# Altium footprint library Max_lib.PcbLib: 23 footprints (part 1 of 2)
Each footprint in its own frame and in the unit in brackets; x right, y up, seen from the top. Pads: shape width x height; smd on the part's side, far side on the other; paste and mask are expansions set on the pad; w line width, h text height; cw(c..) or ccw(c..) is an arc to the next point about the centre after c.
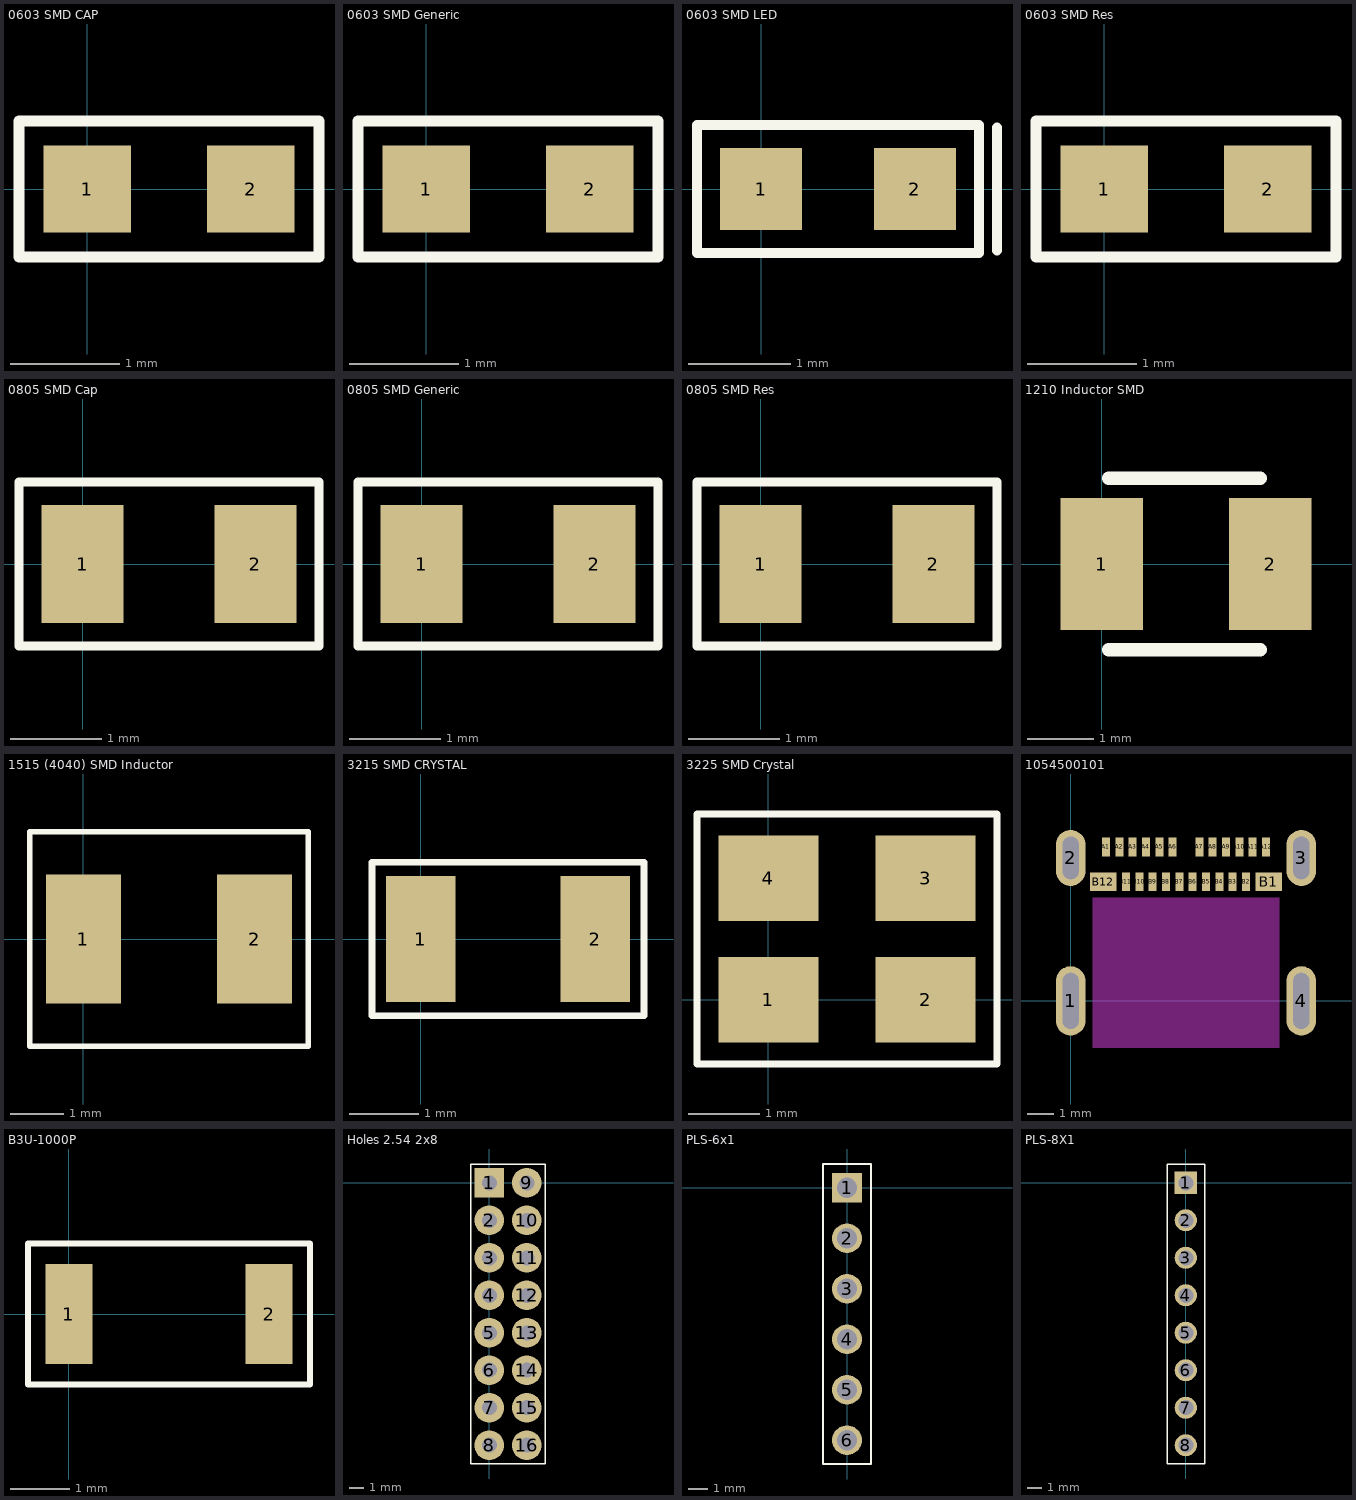
[diagram p0: the footprints below, top view; thin cyan lines are the x and y axes]

## 0603 SMD CAP [mm]
pads (2):
  rect 0.8x0.8 smd mask+0: 1(0,0) 2(1.5,0)
Top Overlay:
  lines w0.1: -0.625,-0.625 -0.625,0.625 2.125,0.625 2.125,-0.625 -0.625,-0.625
3D body "CAP0603.stp": height 0.3, standoff 0, extent -0.05,-0.4 1.55,0.4

## 0603 SMD Generic [mm]
pads (2):
  rect 0.8x0.8 smd: 1(0,0) 2(1.5,0)
Top Overlay:
  lines w0.1: -0.625,-0.625 -0.625,0.625 2.125,0.625 2.125,-0.625 -0.625,-0.625

## 0603 SMD LED [mm]
pads (2):
  rect 0.8x0.8 smd: 1(0,0) 2(1.5,0)
Top Overlay:
  lines w0.1: 2.3,-0.6 2.3,0.6 ; -0.625,-0.625 -0.625,0.625 2.125,0.625 2.125,-0.625 -0.625,-0.625
3D body "0603 Green.step": height 0.55, standoff 0, extent -0.05,-0.4 1.55,0.4

## 0603 SMD Res [mm]
pads (2):
  rect 0.8x0.8 smd: 1(0,0) 2(1.5,0)
Top Overlay:
  lines w0.1: -0.625,-0.625 2.125,-0.625 2.125,0.625 -0.625,0.625 -0.625,-0.625
3D body "RES0603.stp": height 0.45, standoff 0, extent -0.05,-0.4 1.55,0.4

## 0805 SMD Cap [mm]
pads (2):
  rect 0.9x1.3 smd: 1(0,0) 2(1.9,0)
Top Overlay:
  lines w0.1: -0.7,-0.9 2.6,-0.9 2.6,0.9 -0.7,0.9 -0.7,-0.9
3D body "Ceramic_Capacitor_0805_h32mil.step": height 0.81, standoff 0.01, extent -0.05,-0.625 1.95,0.625

## 0805 SMD Generic [mm]
pads (2):
  rect 0.9x1.3 smd: 1(0,0) 2(1.9,0)
Top Overlay:
  lines w0.1: -0.7,-0.9 2.6,-0.9 2.6,0.9 -0.7,0.9 -0.7,-0.9

## 0805 SMD Res [mm]
pads (2):
  rect 0.9x1.3 smd: 1(0,0) 2(1.9,0)
Top Overlay:
  lines w0.1: -0.7,-0.9 2.6,-0.9 2.6,0.9 -0.7,0.9 -0.7,-0.9
3D body "RES0805.stp": height 0.5, standoff 0, extent -0.05,-0.63 1.95,0.62

## 1210 Inductor SMD [mm]
pads (2):
  rect 1.25x2 smd: 1(0,0) 2(2.55,0)
Top Overlay:
  lines w0.2: 0.1,-1.3 2.4,-1.3 ; 0.1,1.3 2.4,1.3
3D body "LQH32PN3R3NNCL.STEP": height 1.7, standoff 0, extent -0.35,-1.25 2.85,1.25

## 1515 (4040) SMD Inductor [mm]
pads (2):
  rect 1.4x2.4 smd: 1(0,0) 2(3.2,0)
Top Overlay:
  lines w0.1: -1,-2 4.2,-2 4.2,2 -1,2 -1,-2
3D body "FDSD0412-H-1R2M=P3.stp": height 1.3, standoff 0, extent -0.56,-2 3.76,2

## 3215 SMD CRYSTAL [mm]
pads (2):
  rect 1x1.8 smd: 1(0,0) 2(2.5,0)
Top Overlay:
  lines w0.1: -0.7,-1.1 3.2,-1.1 3.2,1.1 -0.7,1.1 -0.7,-1.1
3D body "NX3215SA-32.768K-STD-MUA-14--3DModel-STEP-1.STEP": height 0.9, standoff 0, extent -0.35,-0.75 2.85,0.75

## 3225 SMD Crystal [mm]
pads (4):
  rect 1.4x1.2 smd: 1(0,0) 2(2.2,0) 3(2.2,1.7) 4(0,1.7)
Top Overlay:
  lines w0.1: -1,-0.9 3.2,-0.9 3.2,2.6 -1,2.6 -1,-0.9
3D body "3225 SMD Crystal Oscillator.STEP": height 0.7, standoff 0, extent -0.5,-0.4 2.7,2.1

## 1054500101 [mm] "Molex Type-C Top-Mount Footprint"
pads (28):
  oval 1.1x2.6 hole 0.6 slot 2.1 at 90 deg: 1(0,0) 4(8.64,0)
  oval 1.1x2.1 hole 0.6 slot 1.6 at 90 deg: 2(0,5.36) 3(8.64,5.36)
  rect 0.3x0.7 smd: A1(1.32,5.77) A2(1.82,5.77) A3(2.32,5.77) A4(2.82,5.77) A5(3.32,5.77) A6(3.82,5.77) A7(4.82,5.77) A8(5.32,5.77) A9(5.82,5.77) A10(6.32,5.77) A11(6.82,5.77) A12(7.32,5.77) B2(6.57,4.47) B3(6.07,4.47) B4(5.57,4.47) B5(5.07,4.47) B6(4.57,4.47) B7(4.07,4.47) B8(3.57,4.47) B9(3.07,4.47) B10(2.57,4.47) B11(2.07,4.47)
  rect 1x0.7 smd: B1(7.42,4.47) B12(1.22,4.47)
Keep-Out Layer:
  rectangle: 0.82,-1.77 7.82,3.88
3D body "1054500101.stp": height 3.18, standoff -0.78, extent -0.15,-1.95 8.79,5.95

## B3U-1000P [mm]
pads (2):
  rect 0.8x1.7 smd: 1(0,0) 2(3.4,0)
Top Overlay:
  lines w0.1: -0.7,-1.2 4.1,-1.2 4.1,1.2 -0.7,1.2 -0.7,-1.2
3D body "B3U-1000P.stp": height 1.6, standoff 0, extent -0.3,-1.25 3.7,1.25

## Holes 2.54 2x8 [mm]
pads (16):
  rect 2x2 hole 1.016: 1(0,0)
  round 2 hole 1.016: 2(0,-2.54) 3(0,-5.08) 4(0,-7.62) 5(0,-10.16) 6(0,-12.7) 7(0,-15.24) 8(0,-17.78) 9(2.54,0) 10(2.54,-2.54) 11(2.54,-5.08) 12(2.54,-7.62) 13(2.54,-10.16) 14(2.54,-12.7) 15(2.54,-15.24) 16(2.54,-17.78)
Top Overlay:
  lines w0.1: -1.27,-19.05 -1.27,1.27 3.81,1.27 3.81,-19.05 -1.27,-19.05

## PLS-6x1 [mm]
pads (6):
  rect 1.5x1.5 hole 1.02: 1(0,0)
  round 1.5 hole 1.02: 2(0,-2.54) 3(0,-5.08) 4(0,-7.62) 5(0,-10.16) 6(0,-12.7)
Top Overlay:
  lines w0.1: -1.2,-13.9 1.2,-13.9 1.2,1.2 -1.2,1.2 -1.2,-13.9
3D body "PLS-6.stp": height 8.6, standoff -3, extent -1.27,-13.97 1.27,1.27

## PLS-8X1 [mm]
pads (8):
  rect 1.5x1.5 hole 1.016: 1(0,0)
  round 1.5 hole 1.016: 2(0,-2.54) 3(0,-5.08) 4(0,-7.62) 5(0,-10.16) 6(0,-12.7) 7(0,-15.24) 8(0,-17.78)
Top Overlay:
  lines w0.1: -1.27,-19.05 -1.27,1.27 1.3,1.27 1.3,-19.05 -1.27,-19.05